# Altium schematic symbol library 5mm_4-pin_RGB_LED_CA.SchLib: 1 symbol
Pins are listed as number, name and electrical type; pins without a type are passive.

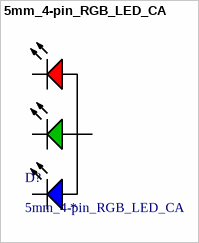
[diagram p0: symbol 5mm_4-pin_RGB_LED_CA]

## 5mm_4-pin_RGB_LED_CA
designator D?
5mm 4 pin tri-color RGB LED Common Anode; LCSC: *
footprint 5mm_4-pin_RGB_LED_CA
pins: 1 RED, 2 CATHODE, 3 BLUE, 4 GREEN